# EAGLE library part PLD12 (library doz)
Удвоенный разъем на 5 конт для 485.
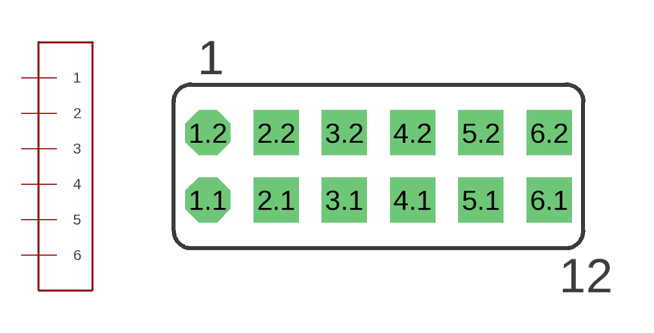
[diagram p15: symbol with the pads of PLD12; footprint PLD12]

Designator prefix -

## PLD12  [PLD12]
1.1  1
1.2  1
2.1  2
2.2  2
3.1  3
3.2  3
4.1  4
4.2  4
5.1  5
5.2  5
6.1  6
6.2  6

## Footprint PLD12 (pad centres in mm)
drill 1 pad 1.676 octagon: 1.1 -6.35,-1.25; 1.2 -6.35,1.25
drill 1 pad 1.676 square: 2.1 -3.81,-1.25; 2.2 -3.81,1.25; 3.1 -1.27,-1.25; 3.2 -1.27,1.25; 4.1 1.27,-1.25; 4.2 1.27,1.25; 5.1 3.81,-1.25; 5.2 3.81,1.25; 6.1 6.35,-1.25; 6.2 6.35,1.25